# EAGLE library part FH34S-30S-0.5S (library LITTLEBITS140915)
0.5mm Pitch Connectors For FPC/FFC Source: Data sheet <http://www.hirose.co.jp/cataloge_hp/e58605370.pdf>
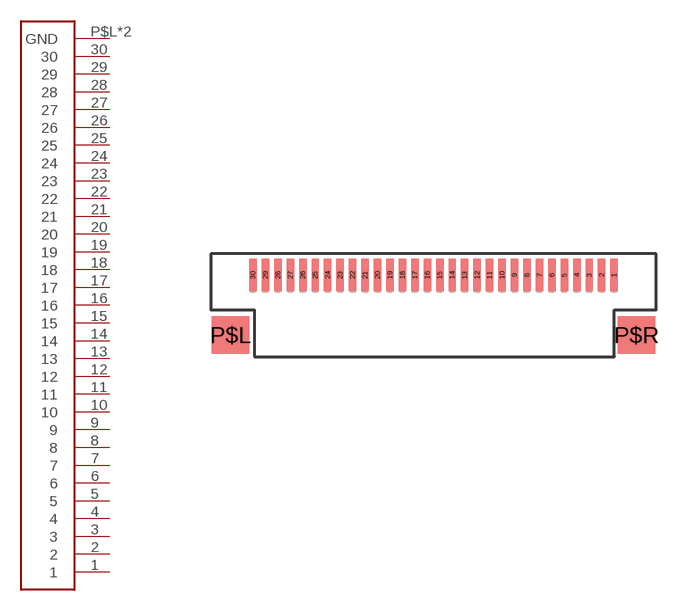
[diagram p53: symbol with the pads of FH34S-30S-0.5S; footprint FH34S-30S-0.5S]

Designator prefix X

## FH34S-30S-0.5S  [FH34S-30S-0.5S]
1  1
2  2
3  3
4  4
5  5
6  6
7  7
8  8
9  9
10  10
11  11
12  12
13  13
14  14
15  15
16  16
17  17
18  18
19  19
20  20
21  21
22  22
23  23
24  24
25  25
26  26
27  27
28  28
29  29
30  30
P$L  GND
P$R  GND

## Footprint FH34S-30S-0.5S (pad centres in mm)
smd 0.3 x 1.3: 1 3.44,4.52; 2 2.94,4.52; 3 2.44,4.52; 4 1.94,4.52; 5 1.44,4.52; 6 0.94,4.52; 7 0.44,4.52; 8 -0.06,4.52; 9 -0.56,4.52; 10 -1.06,4.52; 11 -1.56,4.52; 12 -2.06,4.52; 13 -2.56,4.52; 14 -3.06,4.52; 15 -3.56,4.52; 16 -4.06,4.52; 17 -4.56,4.52; 18 -5.06,4.52; 19 -5.56,4.52; 20 -6.06,4.52; 21 -6.56,4.52; 22 -7.06,4.52; 23 -7.56,4.52; 24 -8.06,4.52; 25 -8.56,4.52; 26 -9.06,4.52; 27 -9.56,4.52; 28 -10.06,4.52; 29 -10.56,4.52; 30 -11.06,4.52
smd 1.5 x 1.5: P$L -11.96,2.12; P$R 4.34,2.12